# EAGLE library part FXOS8700CQR1 (library FXOS8700CQR1 Magnetometer)
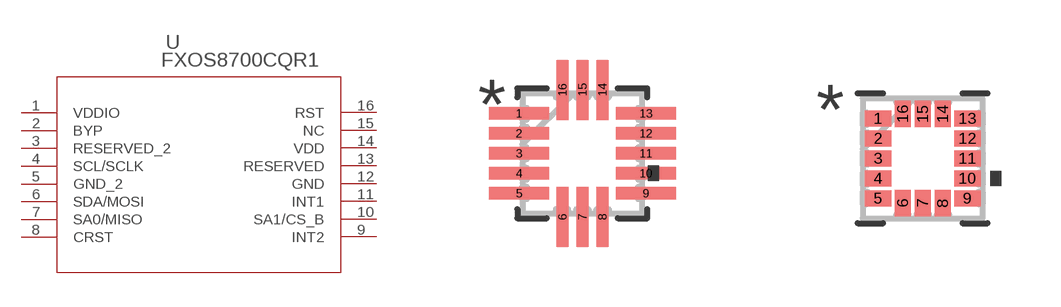
[diagram p0: symbol with the pads of QFN16_3X3_NXP; footprints QFN16_3X3_NXP, QFN16_3X3_NXP-M]

Designator prefix U

## FXOS8700CQR1 (BUILT_BY: EMA_Jessica; COPYRIGHT: Copyright (C) 2018 Accelerated Designs. All rights reserved; MANUFACTURER_PART_NUMBER: FXOS8700CQR1; SOURCELIBRARY: NXP_2019-12-31; VENDOR: NXP)  [QFN16_3X3_NXP]
1  VDDIO  pwr
2  BYP  out
3  RESERVED_2  pas
4  SCL/SCLK  in
5  GND_2  pwr
6  SDA/MOSI
7  SA0/MISO
8  CRST
9  INT2
10  SA1/CS_B
11  INT1
12  GND  pwr
13  RESERVED  pas
14  VDD  pwr
15  NC  nc
16  RST  in

## FXOS8700CQR1QFN16_3X3_NXP-M (BUILT_BY: EMA_Jessica; COPYRIGHT: Copyright (C) 2018 Accelerated Designs. All rights reserved; MANUFACTURER_PART_NUMBER: FXOS8700CQR1; SOURCELIBRARY: NXP_2019-12-31; VENDOR: NXP)  [QFN16_3X3_NXP-M]
Pads as for QFN16_3X3_NXP

## FXOS8700CQR1QFN16_3X3_NXP-L (BUILT_BY: EMA_Jessica; COPYRIGHT: Copyright (C) 2018 Accelerated Designs. All rights reserved; MANUFACTURER_PART_NUMBER: FXOS8700CQR1; SOURCELIBRARY: NXP_2019-12-31; VENDOR: NXP)  [QFN16_3X3_NXP-L]
Pads as for QFN16_3X3_NXP

## Footprint QFN16_3X3_NXP (pad centres in mm)
smd 1.5 x 0.305: 1 -1.587,1; 2 -1.587,0.5; 3 -1.587,0; 4 -1.587,-0.5; 5 -1.587,-1; 9 1.588,-1; 10 1.588,-0.5; 11 1.588,0; 12 1.588,0.5; 13 1.588,1
smd 0.305 x 1.5: 6 -0.5,-1.591; 7 0,-1.591; 8 0.5,-1.591; 14 0.5,1.59; 15 0,1.59; 16 -0.5,1.59

## Footprint QFN16_3X3_NXP-M (pad centres in mm)
smd 0.66 x 0.406: 1 -1.118,1; 2 -1.118,0.5; 3 -1.118,0; 4 -1.118,-0.5; 5 -1.118,-1; 9 1.118,-1; 10 1.118,-0.5; 11 1.118,0; 12 1.118,0.5; 13 1.118,1
smd 0.406 x 0.66: 6 -0.5,-1.118; 7 0,-1.118; 8 0.5,-1.118; 14 0.5,1.118; 15 0,1.118; 16 -0.5,1.118

## Footprint QFN16_3X3_NXP-L (pad centres in mm)
smd 0.457 x 0.203: 1 -1.118,1; 2 -1.118,0.5; 3 -1.118,0; 4 -1.118,-0.5; 5 -1.118,-1; 9 1.118,-1; 10 1.118,-0.5; 11 1.118,0; 12 1.118,0.5; 13 1.118,1
smd 0.203 x 0.457: 6 -0.5,-1.118; 7 0,-1.118; 8 0.5,-1.118; 14 0.5,1.118; 15 0,1.118; 16 -0.5,1.118